# Altium integrated library NUCLEO-L432KC.IntLib: 1 symbol
Pins are listed as number, name and electrical type; pins without a type are passive.

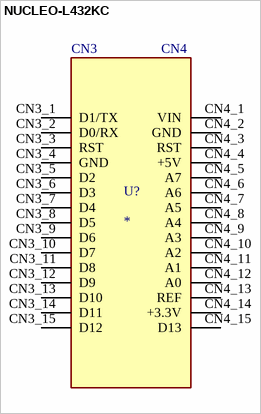
[diagram p0: symbol NUCLEO-L432KC]

## NUCLEO-L432KC
designator U?
STM32 Nucleo-32 development board with STM32L432KC MCU, supports Arduino connectivity; MP: NUCLEO-L432KC; Package: None; Price: None; Availability: Unavailable; Value: *
footprint MODULE_NUCLEO-L432KC
pins: CN3_1 D1/TX (power), CN3_2 D0/RX (power), CN3_3 RST (power), CN3_4 GND (power), CN3_5 D2 (power), CN3_6 D3 (power), CN3_7 D4 (power), CN3_8 D5 (power), CN3_9 D6 (power), CN3_10 D7 (power), CN3_11 D8 (power), CN3_12 D9 (power), CN3_13 D10, CN3_14 D11 (power), CN3_15 D12 (power), CN4_1 VIN (power), CN4_2 GND (power), CN4_3 RST, CN4_4 +5V (power), CN4_5 A7, CN4_6 A6, CN4_7 A5, CN4_8 A4, CN4_9 A3, CN4_10 A2, CN4_11 A1, CN4_12 A0, CN4_13 REF, CN4_14 +3.3V (power), CN4_15 D13 (power)
text: CN3; CN4